# Altium footprint library PCB - LEADLESS - QFN - ANALOG QFN-28 5x4MM.PCBLIB: 1 footprints
Each footprint in its own frame and in the unit in brackets; x right, y up, seen from the top. Pads: shape width x height; smd on the part's side, far side on the other; paste and mask are expansions set on the pad; w line width, h text height; cw(c..) or ccw(c..) is an arc to the next point about the centre after c.
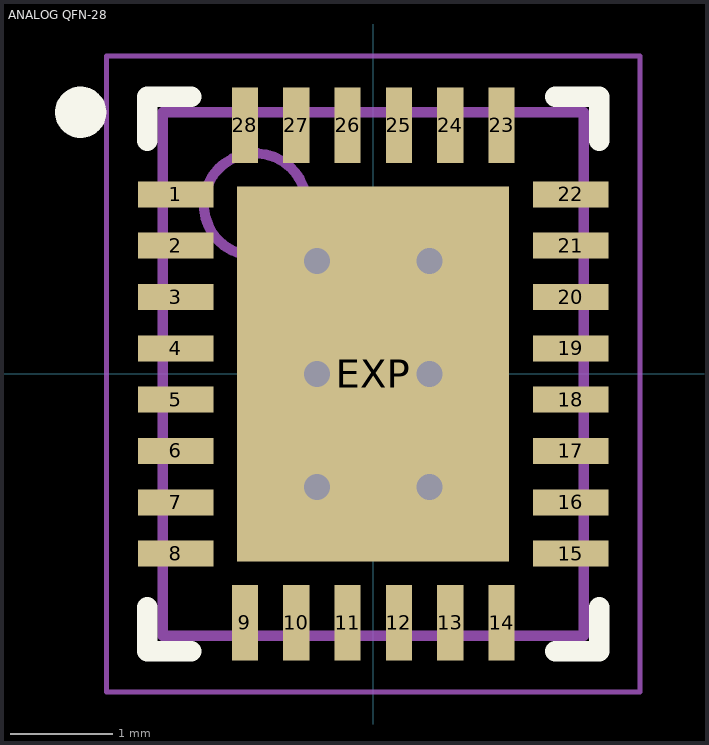
[diagram p0: the footprint, top view; thin cyan lines are the x and y axes]

## ANALOG QFN-28 [mm] "QFN, 28-Leads, Body 4.00x5.00mm, Pitch 0.50mm, Thermal Pad 2.65x3.65mm, IPC Medium Density"
height 0.8
pads (29):
  rect 0.737x0.254 smd mask+0.05: 1(-1.925,1.75) 2(-1.925,1.25) 3(-1.925,0.75) 4(-1.925,0.25) 5(-1.925,-0.25) 6(-1.925,-0.75) 7(-1.925,-1.25) 8(-1.925,-1.75) 15(1.925,-1.75) 16(1.925,-1.25) 17(1.925,-0.75) 18(1.925,-0.25) 19(1.925,0.25) 20(1.925,0.75) 21(1.925,1.25) 22(1.925,1.75)
  rect 0.254x0.737 smd mask+0.05: 9(-1.25,-2.425) 10(-0.75,-2.425) 11(-0.25,-2.425) 12(0.25,-2.425) 13(0.75,-2.425) 14(1.25,-2.425) 23(1.25,2.425) 24(0.75,2.425) 25(0.25,2.425) 26(-0.25,2.425) 27(-0.75,2.425) 28(-1.25,2.425)
  rect 2.65x3.65 smd mask+0.05: EXP(0,0)
via 0.55,-1.1 diameter 0.61 hole 0.254
via -0.55,-1.1 diameter 0.61 hole 0.254
via 0.55,0 diameter 0.61 hole 0.254
via -0.55,0 diameter 0.61 hole 0.254
via 0.55,1.1 diameter 0.61 hole 0.254
via -0.55,1.1 diameter 0.61 hole 0.254
Top Overlay:
  circle w0.25: c-2.85,2.55 r0.125
  lines w0.2: -2.2,-2.275 -2.2,-2.7 -1.775,-2.7 ; -2.2,2.275 -2.2,2.7 -1.775,2.7 ; 1.775,-2.7 2.2,-2.7 2.2,-2.275 ; 1.775,2.7 2.2,2.7 2.2,2.275
Mechanical 13:
  circle w0.1: c-1.15,1.65 r0.5
  lines w0.1: -2.05,-2.55 2.05,-2.55 2.05,2.55 -2.05,2.55 -2.05,-2.55
Mechanical 15:
  lines w0.05: -2.6,-3.1 2.6,-3.1 2.6,3.1 -2.6,3.1 -2.6,-3.1
  lines w0.1: -0.5,0 0.5,0 ; 0,-0.5 0,0.5
3D body "QFN50P400X500X80_HS-29N.step": height 0.8, standoff 0, extent -2.051,-2.551 2.051,2.551